# Altium schematic symbol library Q 桥堆.SCHLIB: 13 symbols
Pins are listed as number, name and electrical type; pins without a type are passive.

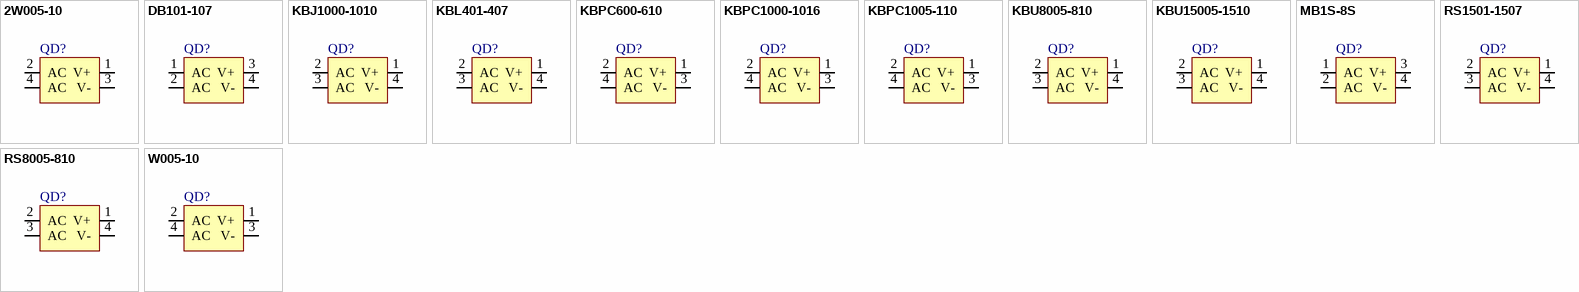
[diagram p0: symbols 2W005-10 to W005-10]

## 2W005-10
designator QD?
桥堆
pins: 1 V+, 2 AC, 3 V-, 4 AC

## DB101-107
designator QD?
桥堆
pins: 1 AC, 2 AC, 3 V+, 4 V-

## KBJ1000-1010
designator QD?
桥堆
pins: 1 V+, 2 AC, 3 AC, 4 V-

## KBL401-407
designator QD?
桥堆
pins: 1 V+, 2 AC, 3 AC, 4 V-

## KBPC600-610
designator QD?
桥堆
pins: 1 V+, 2 AC, 3 V-, 4 AC

## KBPC1000-1016
designator QD?
桥堆
pins: 1 V+, 2 AC, 3 V-, 4 AC

## KBPC1005-110
designator QD?
桥堆
pins: 1 V+, 2 AC, 3 V-, 4 AC

## KBU8005-810
designator QD?
桥堆
pins: 1 V+, 2 AC, 3 AC, 4 V-

## KBU15005-1510
designator QD?
桥堆
pins: 1 V+, 2 AC, 3 AC, 4 V-

## MB1S-8S
designator QD?
桥堆
pins: 1 AC, 2 AC, 3 V+, 4 V-

## RS1501-1507
designator QD?
桥堆
pins: 1 V+, 2 AC, 3 AC, 4 V-

## RS8005-810
designator QD?
桥堆
pins: 1 V+, 2 AC, 3 AC, 4 V-

## W005-10
designator QD?
桥堆
pins: 1 V+, 2 AC, 3 V-, 4 AC